# Altium integrated library Renesas Transistor.IntLib: 835 symbols (part 12 of 18)
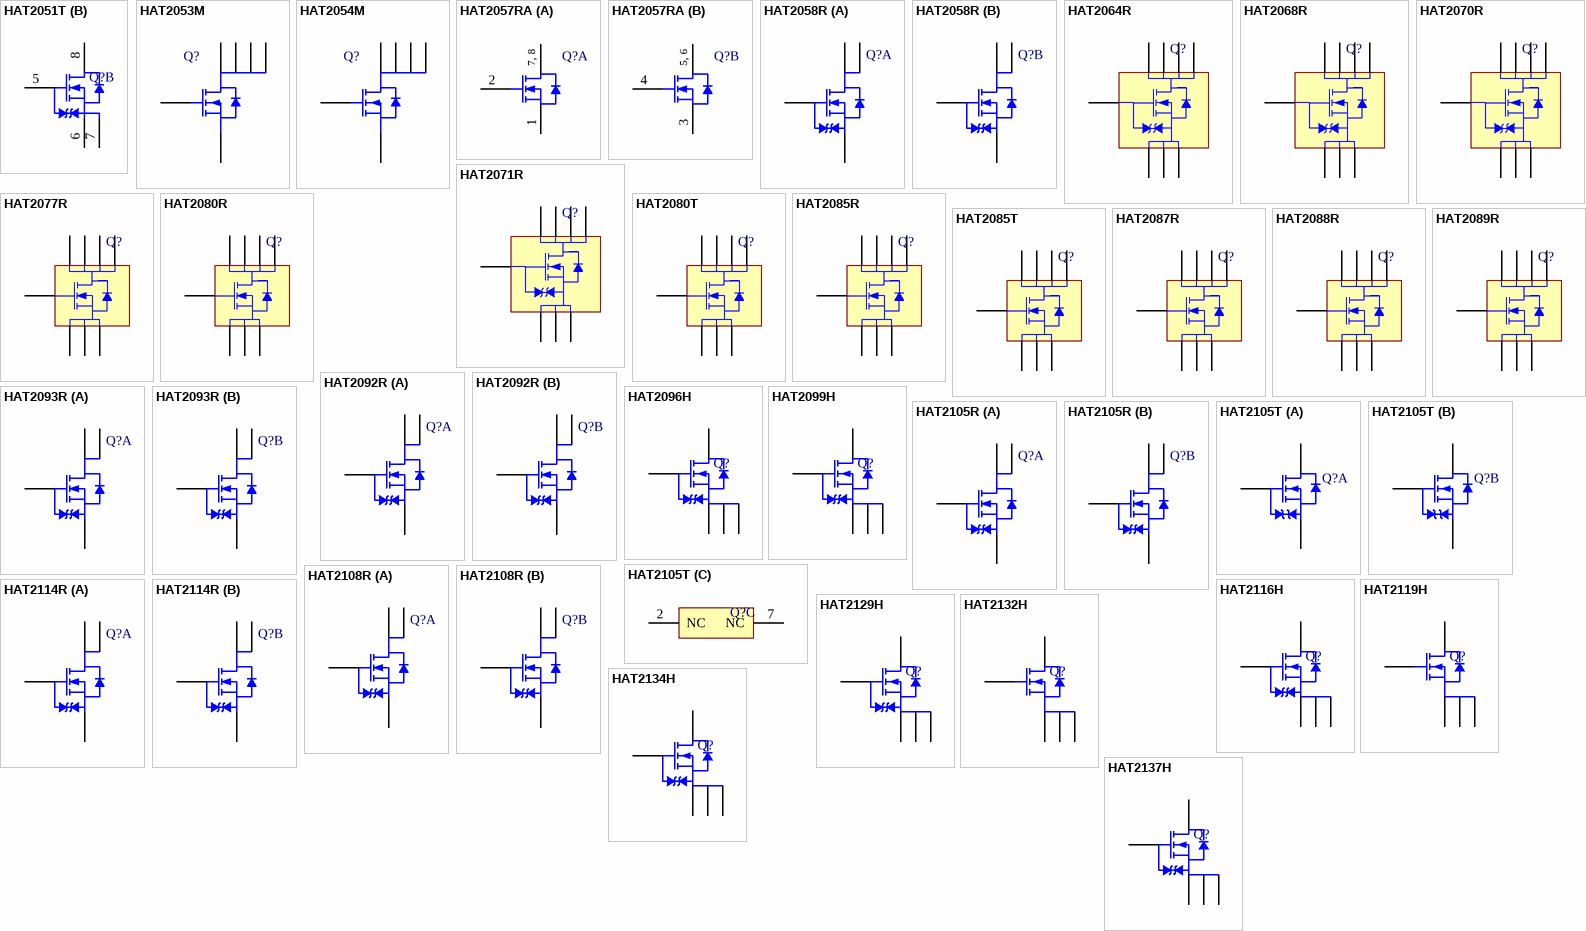
[diagram p33: symbols HAT2051T to HAT2137H]

## HAT2068R
designator Q?
Silicon N-Channel Power MOSFET, Power Switching; Published: 30-Oct-2009; DatasheetVersion: Rev.5.00, Sep-2005; PackageVersion: Sep-2005; PackageReference: PRSP0008DD-A; Publisher: Altium Limited; PackageDescription: 8-Pin Plastic Small Outline Integrated Circuit 1.27 mm Pitch (SOP-8); Supplier 1: Digi-Key; Supplier Part Number 1: HAT2068R-ND; Code_IPC: SOIC127P600-8; ComponentLink1Description: Manufacturer Link; ComponentLink1URL: http://sg.renesas.com/fmwk.jsp?cnt=discrete_category_landing.jsp&fp=/products/discrete/; ComponentLink2Description: Datasheet; ComponentLink2URL: http://documentation.renesas.com/eng/products/transistor/rej03g1176_hat2068rds.pdf; ComponentLink3Description: Packaging Specification; ComponentLink3URL: http://sg.renesas.com/media/products/common_info/package/pdf/transistor/code/prsp0008dd_a.pdf
footprint PRSP0008DD-A_N (SOIC, 8-Leads, Body 4.9x3.95mm, Pitch 1.27mm, IPC Medium Density)
footprint PRSP0008DD-A_L (SOIC, 8-Leads, Body 4.9x3.95mm, Pitch 1.27mm, IPC High Density)
footprint PRSP0008DD-A_M (SOIC, 8-Leads, Body 4.9x3.95mm, Pitch 1.27mm, IPC Low Density)
pins: 1 S, 2 S, 3 S, 4 G, 5 D, 6 D, 7 D, 8 D

## HAT2070R
designator Q?
Silicon N-Channel Power MOSFET, Power Switching; Published: 30-Oct-2009; DatasheetVersion: Rev.4.00, Sep-2005; PackageVersion: Sep-2005; PackageReference: PRSP0008DD-A; Publisher: Altium Limited; PackageDescription: 8-Pin Plastic Small Outline Integrated Circuit 1.27 mm Pitch (SOP-8); Code_IPC: SOIC127P600-8; ComponentLink1Description: Manufacturer Link; ComponentLink1URL: http://sg.renesas.com/fmwk.jsp?cnt=discrete_category_landing.jsp&fp=/products/discrete/; ComponentLink2Description: Datasheet; ComponentLink2URL: http://documentation.renesas.com/eng/products/transistor/rej03g1177_hat2070rds.pdf; ComponentLink3Description: Packaging Specification; ComponentLink3URL: http://sg.renesas.com/media/products/common_info/package/pdf/transistor/code/prsp0008dd_a.pdf
footprint PRSP0008DD-A_N (SOIC, 8-Leads, Body 4.9x3.95mm, Pitch 1.27mm, IPC Medium Density)
footprint PRSP0008DD-A_L (SOIC, 8-Leads, Body 4.9x3.95mm, Pitch 1.27mm, IPC High Density)
footprint PRSP0008DD-A_M (SOIC, 8-Leads, Body 4.9x3.95mm, Pitch 1.27mm, IPC Low Density)
pins: 1 S, 2 S, 3 S, 4 G, 5 D, 6 D, 7 D, 8 D

## HAT2071R
designator Q?
Silicon N-Channel Power MOSFET, Power Switching; Published: 30-Oct-2009; DatasheetVersion: Rev.4.00, Sep-2005; PackageVersion: Sep-2005; PackageReference: PRSP0008DD-A; Publisher: Altium Limited; PackageDescription: 8-Pin Plastic Small Outline Integrated Circuit 1.27 mm Pitch (SOP-8); Code_IPC: SOIC127P600-8; ComponentLink1Description: Manufacturer Link; ComponentLink1URL: http://sg.renesas.com/fmwk.jsp?cnt=discrete_category_landing.jsp&fp=/products/discrete/; ComponentLink2Description: Datasheet; ComponentLink2URL: http://documentation.renesas.com/eng/products/transistor/rej03g1178_hat2071rds.pdf; ComponentLink3Description: Packaging Specification; ComponentLink3URL: http://sg.renesas.com/media/products/common_info/package/pdf/transistor/code/prsp0008dd_a.pdf
footprint PRSP0008DD-A_N (SOIC, 8-Leads, Body 4.9x3.95mm, Pitch 1.27mm, IPC Medium Density)
footprint PRSP0008DD-A_L (SOIC, 8-Leads, Body 4.9x3.95mm, Pitch 1.27mm, IPC High Density)
footprint PRSP0008DD-A_M (SOIC, 8-Leads, Body 4.9x3.95mm, Pitch 1.27mm, IPC Low Density)
pins: 1 S, 2 S, 3 S, 4 G, 5 D, 6 D, 7 D, 8 D

## HAT2077R
designator Q?
Silicon N-Channel Power MOSFET, High Speed Power Switching; Published: 30-Oct-2009; DatasheetVersion: Rev.2.00, Sep-2005; PackageVersion: Sep-2005; PackageReference: PRSP0008DD-A; Publisher: Altium Limited; PackageDescription: 8-Pin Plastic Small Outline Integrated Circuit 1.27 mm Pitch (SOP-8); Code_IPC: SOIC127P600-8; ComponentLink1Description: Manufacturer Link; ComponentLink1URL: http://sg.renesas.com/fmwk.jsp?cnt=discrete_category_landing.jsp&fp=/products/discrete/; ComponentLink2Description: Datasheet; ComponentLink2URL: http://documentation.renesas.com/eng/products/transistor/rej03g1179_hat2077rds.pdf; ComponentLink3Description: Packaging Specification; ComponentLink3URL: http://sg.renesas.com/media/products/common_info/package/pdf/transistor/code/prsp0008dd_a.pdf
footprint PRSP0008DD-A_N (SOIC, 8-Leads, Body 4.9x3.95mm, Pitch 1.27mm, IPC Medium Density)
footprint PRSP0008DD-A_L (SOIC, 8-Leads, Body 4.9x3.95mm, Pitch 1.27mm, IPC High Density)
footprint PRSP0008DD-A_M (SOIC, 8-Leads, Body 4.9x3.95mm, Pitch 1.27mm, IPC Low Density)
pins: 1 S, 2 S, 3 S, 4 G, 5 D, 6 D, 7 D, 8 D

## HAT2080R
designator Q?
Silicon N-Channel Power MOSFET, High Speed Power Switching; Published: 30-Oct-2009; DatasheetVersion: Rev.2.00, Sep-2005; PackageVersion: Sep-2005; PackageReference: PRSP0008DD-A; Publisher: Altium Limited; PackageDescription: 8-Pin Plastic Small Outline Integrated Circuit 1.27 mm Pitch (SOP-8); Code_IPC: SOIC127P600-8; ComponentLink1Description: Manufacturer Link; ComponentLink1URL: http://sg.renesas.com/fmwk.jsp?cnt=discrete_category_landing.jsp&fp=/products/discrete/; ComponentLink2Description: Datasheet; ComponentLink2URL: http://documentation.renesas.com/eng/products/transistor/rej03g1180_hat2080rds.pdf; ComponentLink3Description: Packaging Specification; ComponentLink3URL: http://sg.renesas.com/media/products/common_info/package/pdf/transistor/code/prsp0008dd_a.pdf
footprint PRSP0008DD-A_N (SOIC, 8-Leads, Body 4.9x3.95mm, Pitch 1.27mm, IPC Medium Density)
footprint PRSP0008DD-A_L (SOIC, 8-Leads, Body 4.9x3.95mm, Pitch 1.27mm, IPC High Density)
footprint PRSP0008DD-A_M (SOIC, 8-Leads, Body 4.9x3.95mm, Pitch 1.27mm, IPC Low Density)
pins: 1 S, 2 S, 3 S, 4 G, 5 D, 6 D, 7 D, 8 D

## HAT2080T
designator Q?
Silicon N-Channel MOSFET, High Speed Power Switching; Published: 30-Oct-2009; DatasheetVersion: Rev.5.00, Sep-2005; PackageVersion: Sep-2007; PackageReference: PTSP0008JB-A; Publisher: Altium Limited; PackageDescription: 8-Pin Plastic Thin Small Outline Package 0.65 mm Pitch (TSSOP-8); Code_JEITA: P-TSSOP8-4.4×3-0.65; ComponentLink1Description: Manufacturer Link; ComponentLink1URL: http://sg.renesas.com/fmwk.jsp?cnt=discrete_category_landing.jsp&fp=/products/discrete/; ComponentLink2Description: Datasheet; ComponentLink2URL: http://documentation.renesas.com/eng/products/transistor/rej03g0162_hat2080tds.pdf; ComponentLink3Description: Packaging Specification; ComponentLink3URL: http://sg.renesas.com/media/products/common_info/package/pdf/transistor/code/ptsp0008jb_a.pdf
footprint PTSP0008JB-A_N (TSOP, 8-Leads, Body 3x4.4mm, Pitch 0.65mm, IPC Medium Density)
footprint PTSP0008JB-A_L (TSOP, 8-Leads, Body 3x4.4mm, Pitch 0.65mm, IPC High Density)
footprint PTSP0008JB-A_M (TSOP, 8-Leads, Body 3x4.4mm, Pitch 0.65mm, IPC Low Density)
pins: 1 S, 2 S, 3 S, 4 G, 5 D, 6 D, 7 D, 8 D

## HAT2085R
designator Q?
Silicon N-Channel Power MOSFET, High Speed Power Switching; Published: 30-Oct-2009; DatasheetVersion: Rev.2.00, Sep-2005; PackageVersion: Sep-2005; PackageReference: PRSP0008DD-A; Publisher: Altium Limited; PackageDescription: 8-Pin Plastic Small Outline Integrated Circuit 1.27 mm Pitch (SOP-8); Code_IPC: SOIC127P600-8; ComponentLink1Description: Manufacturer Link; ComponentLink1URL: http://sg.renesas.com/fmwk.jsp?cnt=discrete_category_landing.jsp&fp=/products/discrete/; ComponentLink2Description: Datasheet; ComponentLink2URL: http://documentation.renesas.com/eng/products/transistor/rej03g1181_hat2085rds.pdf; ComponentLink3Description: Packaging Specification; ComponentLink3URL: http://sg.renesas.com/media/products/common_info/package/pdf/transistor/code/prsp0008dd_a.pdf
footprint PRSP0008DD-A_N (SOIC, 8-Leads, Body 4.9x3.95mm, Pitch 1.27mm, IPC Medium Density)
footprint PRSP0008DD-A_L (SOIC, 8-Leads, Body 4.9x3.95mm, Pitch 1.27mm, IPC High Density)
footprint PRSP0008DD-A_M (SOIC, 8-Leads, Body 4.9x3.95mm, Pitch 1.27mm, IPC Low Density)
pins: 1 S, 2 S, 3 S, 4 G, 5 D, 6 D, 7 D, 8 D

## HAT2085T
designator Q?
Silicon N-Channel MOSFET, High Speed Power Switching; Published: 30-Oct-2009; DatasheetVersion: Rev.5.00, Nov-2007; PackageVersion: Sep-2007; PackageReference: PTSP0008JB-A; Publisher: Altium Limited; PackageDescription: 8-Pin Plastic Thin Small Outline Package 0.65 mm Pitch (TSSOP-8); Code_JEITA: P-TSSOP8-4.4×3-0.65; ComponentLink1Description: Manufacturer Link; ComponentLink1URL: http://sg.renesas.com/fmwk.jsp?cnt=discrete_category_landing.jsp&fp=/products/discrete/; ComponentLink2Description: Datasheet; ComponentLink2URL: http://documentation.renesas.com/eng/products/transistor/rej03g0163_hat2085tds.pdf; ComponentLink3Description: Packaging Specification; ComponentLink3URL: http://sg.renesas.com/media/products/common_info/package/pdf/transistor/code/ptsp0008jb_a.pdf
footprint PTSP0008JB-A_N (TSOP, 8-Leads, Body 3x4.4mm, Pitch 0.65mm, IPC Medium Density)
footprint PTSP0008JB-A_L (TSOP, 8-Leads, Body 3x4.4mm, Pitch 0.65mm, IPC High Density)
footprint PTSP0008JB-A_M (TSOP, 8-Leads, Body 3x4.4mm, Pitch 0.65mm, IPC Low Density)
pins: 1 S, 2 S, 3 S, 4 G, 5 D, 6 D, 7 D, 8 D

## HAT2087R
designator Q?
Silicon N-Channel Power MOSFET, High Speed Power Switching; Published: 30-Oct-2009; DatasheetVersion: Rev.3.00, Feb-2009; PackageVersion: Sep-2005; PackageReference: PRSP0008DD-A; Publisher: Altium Limited; PackageDescription: 8-Pin Plastic Small Outline Integrated Circuit 1.27 mm Pitch (SOP-8); Code_IPC: SOIC127P600-8; ComponentLink1Description: Manufacturer Link; ComponentLink1URL: http://sg.renesas.com/fmwk.jsp?cnt=discrete_category_landing.jsp&fp=/products/discrete/; ComponentLink2Description: Datasheet; ComponentLink2URL: http://documentation.renesas.com/eng/products/transistor/rej03g1182_hat2087rds.pdf; ComponentLink3Description: Packaging Specification; ComponentLink3URL: http://sg.renesas.com/media/products/common_info/package/pdf/transistor/code/prsp0008dd_a.pdf
footprint PRSP0008DD-A_N (SOIC, 8-Leads, Body 4.9x3.95mm, Pitch 1.27mm, IPC Medium Density)
footprint PRSP0008DD-A_L (SOIC, 8-Leads, Body 4.9x3.95mm, Pitch 1.27mm, IPC High Density)
footprint PRSP0008DD-A_M (SOIC, 8-Leads, Body 4.9x3.95mm, Pitch 1.27mm, IPC Low Density)
pins: 1 S, 2 S, 3 S, 4 G, 5 D, 6 D, 7 D, 8 D

## HAT2088R
designator Q?
Silicon N-Channel Power MOSFET, High Speed Power Switching; Published: 30-Oct-2009; DatasheetVersion: Rev.2.00, Sep-2005; PackageVersion: Sep-2005; PackageReference: PRSP0008DD-A; Publisher: Altium Limited; PackageDescription: 8-Pin Plastic Small Outline Integrated Circuit 1.27 mm Pitch (SOP-8); Code_IPC: SOIC127P600-8; ComponentLink1Description: Manufacturer Link; ComponentLink1URL: http://sg.renesas.com/fmwk.jsp?cnt=discrete_category_landing.jsp&fp=/products/discrete/; ComponentLink2Description: Datasheet; ComponentLink2URL: http://documentation.renesas.com/eng/products/transistor/rej03g1183_hat2088rds.pdf; ComponentLink3Description: Packaging Specification; ComponentLink3URL: http://sg.renesas.com/media/products/common_info/package/pdf/transistor/code/prsp0008dd_a.pdf
footprint PRSP0008DD-A_N (SOIC, 8-Leads, Body 4.9x3.95mm, Pitch 1.27mm, IPC Medium Density)
footprint PRSP0008DD-A_L (SOIC, 8-Leads, Body 4.9x3.95mm, Pitch 1.27mm, IPC High Density)
footprint PRSP0008DD-A_M (SOIC, 8-Leads, Body 4.9x3.95mm, Pitch 1.27mm, IPC Low Density)
pins: 1 S, 2 S, 3 S, 4 G, 5 D, 6 D, 7 D, 8 D

## HAT2089R
designator Q?
Silicon N-Channel Power MOSFET, High Speed Power Switching; Published: 30-Oct-2009; DatasheetVersion: Rev.2.00, Sep-2005; PackageVersion: Sep-2005; PackageReference: PRSP0008DD-A; Publisher: Altium Limited; PackageDescription: 8-Pin Plastic Small Outline Integrated Circuit 1.27 mm Pitch (SOP-8); Code_IPC: SOIC127P600-8; ComponentLink1Description: Manufacturer Link; ComponentLink1URL: http://sg.renesas.com/fmwk.jsp?cnt=discrete_category_landing.jsp&fp=/products/discrete/; ComponentLink2Description: Datasheet; ComponentLink2URL: http://documentation.renesas.com/eng/products/transistor/rej03g1184_hat2089rds.pdf; ComponentLink3Description: Packaging Specification; ComponentLink3URL: http://sg.renesas.com/media/products/common_info/package/pdf/transistor/code/prsp0008dd_a.pdf
footprint PRSP0008DD-A_N (SOIC, 8-Leads, Body 4.9x3.95mm, Pitch 1.27mm, IPC Medium Density)
footprint PRSP0008DD-A_L (SOIC, 8-Leads, Body 4.9x3.95mm, Pitch 1.27mm, IPC High Density)
footprint PRSP0008DD-A_M (SOIC, 8-Leads, Body 4.9x3.95mm, Pitch 1.27mm, IPC Low Density)
pins: 1 S, 2 S, 3 S, 4 G, 5 D, 6 D, 7 D, 8 D

## HAT2092R
designator Q?
Silicon N-Channel MOSFET, High Speed Power Switching; Published: 30-Oct-2009; DatasheetVersion: Rev.3.00, Jan-2005; PackageVersion: Sep-2005; PackageReference: PRSP0008DD-A; Publisher: Altium Limited; PackageDescription: 8-Pin Plastic Small Outline Integrated Circuit 1.27 mm Pitch (SOP-8); Code_IPC: SOIC127P600-8; ComponentLink1Description: Manufacturer Link; ComponentLink1URL: http://sg.renesas.com/fmwk.jsp?cnt=discrete_category_landing.jsp&fp=/products/discrete/; ComponentLink2Description: Datasheet; ComponentLink2URL: http://documentation.renesas.com/eng/products/transistor/rej03g0511_hat2092r.pdf; ComponentLink3Description: Packaging Specification; ComponentLink3URL: http://sg.renesas.com/media/products/common_info/package/pdf/transistor/code/prsp0008dd_a.pdf
footprint PRSP0008DD-A_N (SOIC, 8-Leads, Body 4.9x3.95mm, Pitch 1.27mm, IPC Medium Density)
footprint PRSP0008DD-A_L (SOIC, 8-Leads, Body 4.9x3.95mm, Pitch 1.27mm, IPC High Density)
footprint PRSP0008DD-A_M (SOIC, 8-Leads, Body 4.9x3.95mm, Pitch 1.27mm, IPC Low Density)
part A pins: 1 S, 2 G, 7 D, 8 D
part B pins: 3 S, 4 G, 5 D, 6 D

## HAT2093R
designator Q?
Silicon N-Channel Power MOSFET, Power Switching; Published: 30-Oct-2009; DatasheetVersion: Rev.3.00, Sep-2005; PackageVersion: Sep-2005; PackageReference: PRSP0008DD-A; Publisher: Altium Limited; PackageDescription: 8-Pin Plastic Small Outline Integrated Circuit 1.27 mm Pitch (SOP-8); Code_IPC: SOIC127P600-8; ComponentLink1Description: Manufacturer Link; ComponentLink1URL: http://sg.renesas.com/fmwk.jsp?cnt=discrete_category_landing.jsp&fp=/products/discrete/; ComponentLink2Description: Datasheet; ComponentLink2URL: http://documentation.renesas.com/eng/products/transistor/rej03g1185_hat2093rds.pdf; ComponentLink3Description: Packaging Specification; ComponentLink3URL: http://sg.renesas.com/media/products/common_info/package/pdf/transistor/code/prsp0008dd_a.pdf
footprint PRSP0008DD-A_N (SOIC, 8-Leads, Body 4.9x3.95mm, Pitch 1.27mm, IPC Medium Density)
footprint PRSP0008DD-A_L (SOIC, 8-Leads, Body 4.9x3.95mm, Pitch 1.27mm, IPC High Density)
footprint PRSP0008DD-A_M (SOIC, 8-Leads, Body 4.9x3.95mm, Pitch 1.27mm, IPC Low Density)
part A pins: 1 S, 2 G, 7 D, 8 D
part B pins: 3 S, 4 G, 5 D, 6 D

## HAT2096H
designator Q?
Silicon N-Channel Power MOSFET, High Speed Power Switching; Published: 30-Oct-2009; DatasheetVersion: Rev.4.00, Sep-2005; PackageVersion: Sep-2005; PackageReference: PTZZ0005DA-A; Publisher: Altium Limited; PackageDescription: 5-Pin Plastic Transistor Outline Package 4 x 4.9 mm Body (LFPAK); Code_JEITA: SC-100; ComponentLink1Description: Manufacturer Link; ComponentLink1URL: http://sg.renesas.com/fmwk.jsp?cnt=discrete_category_landing.jsp&fp=/products/discrete/; ComponentLink2Description: Datasheet; ComponentLink2URL: http://documentation.renesas.com/eng/products/transistor/rej03g1186_hat2096hds.pdf; ComponentLink3Description: Packaging Specification; ComponentLink3URL: http://sg.renesas.com/media/products/common_info/package/pdf/transistor/code/ptzz0005da_a.pdf
footprint PTZZ0005DA-A_N (TO, 5-Leads, Body 4x4.9mm, Pitch 1.27mm, Lead Span 6mm, IPC Medium Density)
footprint PTZZ0005DA-A_L (TO, 5-Leads, Body 4x4.9mm, Pitch 1.27mm, Lead Span 6mm, IPC High Density)
footprint PTZZ0005DA-A_M (TO, 5-Leads, Body 4x4.9mm, Pitch 1.27mm, Lead Span 6mm, IPC Low Density)
pins: 1 S, 2 S, 3 S, 4 G, 5 D

## HAT2099H
designator Q?
Silicon N-Channel Power MOSFET, Power Switching; Published: 30-Oct-2009; DatasheetVersion: Rev.5.00, Sep-2005; PackageVersion: Sep-2005; PackageReference: PTZZ0005DA-A; Publisher: Altium Limited; PackageDescription: 5-Pin Plastic Transistor Outline Package 4 x 4.9 mm Body (LFPAK); Code_JEITA: SC-100; ComponentLink1Description: Manufacturer Link; ComponentLink1URL: http://sg.renesas.com/fmwk.jsp?cnt=discrete_category_landing.jsp&fp=/products/discrete/; ComponentLink2Description: Datasheet; ComponentLink2URL: http://documentation.renesas.com/eng/products/transistor/rej03g1187_hat2099hds.pdf; ComponentLink3Description: Packaging Specification; ComponentLink3URL: http://sg.renesas.com/media/products/common_info/package/pdf/transistor/code/ptzz0005da_a.pdf
footprint PTZZ0005DA-A_N (TO, 5-Leads, Body 4x4.9mm, Pitch 1.27mm, Lead Span 6mm, IPC Medium Density)
footprint PTZZ0005DA-A_L (TO, 5-Leads, Body 4x4.9mm, Pitch 1.27mm, Lead Span 6mm, IPC High Density)
footprint PTZZ0005DA-A_M (TO, 5-Leads, Body 4x4.9mm, Pitch 1.27mm, Lead Span 6mm, IPC Low Density)
pins: 1 S, 2 S, 3 S, 4 G, 5 D

## HAT2105R
designator Q?
Silicon N-Channel Power MOSFET, High Speed Power Switching; Published: 30-Oct-2009; DatasheetVersion: Rev.1.00, Apr-2006; PackageVersion: Sep-2005; PackageReference: PRSP0008DD-A; Publisher: Altium Limited; PackageDescription: 8-Pin Plastic Small Outline Integrated Circuit 1.27 mm Pitch (SOP-8); Code_IPC: SOIC127P600-8; ComponentLink1Description: Manufacturer Link; ComponentLink1URL: http://sg.renesas.com/fmwk.jsp?cnt=discrete_category_landing.jsp&fp=/products/discrete/; ComponentLink2Description: Datasheet; ComponentLink2URL: http://documentation.renesas.com/eng/products/transistor/rej03g1369_hat2105rds.pdf; ComponentLink3Description: Packaging Specification; ComponentLink3URL: http://sg.renesas.com/media/products/common_info/package/pdf/transistor/code/prsp0008dd_a.pdf
footprint PRSP0008DD-A_N (SOIC, 8-Leads, Body 4.9x3.95mm, Pitch 1.27mm, IPC Medium Density)
footprint PRSP0008DD-A_L (SOIC, 8-Leads, Body 4.9x3.95mm, Pitch 1.27mm, IPC High Density)
footprint PRSP0008DD-A_M (SOIC, 8-Leads, Body 4.9x3.95mm, Pitch 1.27mm, IPC Low Density)
part A pins: 1 S, 2 G, 7 D, 8 D
part B pins: 3 S, 4 G, 5 D, 6 D

## HAT2105T
designator Q?
Silicon N-Channel MOSFET, High Speed Power Switching; Published: 30-Oct-2009; DatasheetVersion: Rev.2.00, Aug-2007; PackageVersion: Sep-2007; PackageReference: PTSP0008JB-B; Publisher: Altium Limited; PackageDescription: 8-Pin Plastic Thin Small Outline Package 0.65 mm Pitch (TSSOP-8); Code_JEITA: P-TSSOP8-4.4×3-0.65; ComponentLink1Description: Manufacturer Link; ComponentLink1URL: http://sg.renesas.com/fmwk.jsp?cnt=discrete_category_landing.jsp&fp=/products/discrete/; ComponentLink2Description: Datasheet; ComponentLink2URL: http://documentation.renesas.com/eng/products/transistor/rej03g0384_hat2105tds.pdf; ComponentLink3Description: Packaging Specification; ComponentLink3URL: http://sg.renesas.com/media/products/common_info/package/pdf/transistor/code/ptsp0008jb_b.pdf
footprint PTSP0008JB-B_N (TSOP, 8-Leads, Body 3x4.4mm, Pitch 0.65mm, IPC Medium Density)
footprint PTSP0008JB-B_L (TSOP, 8-Leads, Body 3x4.4mm, Pitch 0.65mm, IPC High Density)
footprint PTSP0008JB-B_M (TSOP, 8-Leads, Body 3x4.4mm, Pitch 0.65mm, IPC Low Density)
part A pins: 1 D, 3 S, 4 G
part B pins: 5 G, 6 S, 8 D
part C pins: 2 NC, 7 NC

## HAT2108R
designator Q?
Silicon N-Channel Power MOSFET, High Speed Power Switching; Published: 30-Oct-2009; DatasheetVersion: Rev.5.00, Sep-2005; PackageVersion: Sep-2005; PackageReference: PRSP0008DD-A; Publisher: Altium Limited; PackageDescription: 8-Pin Plastic Small Outline Integrated Circuit 1.27 mm Pitch (SOP-8); Code_IPC: SOIC127P600-8; ComponentLink1Description: Manufacturer Link; ComponentLink1URL: http://sg.renesas.com/fmwk.jsp?cnt=discrete_category_landing.jsp&fp=/products/discrete/; ComponentLink2Description: Datasheet; ComponentLink2URL: http://documentation.renesas.com/eng/products/transistor/rej03g1188_hat2108rds.pdf; ComponentLink3Description: Packaging Specification; ComponentLink3URL: http://sg.renesas.com/media/products/common_info/package/pdf/transistor/code/prsp0008dd_a.pdf
footprint PRSP0008DD-A_N (SOIC, 8-Leads, Body 4.9x3.95mm, Pitch 1.27mm, IPC Medium Density)
footprint PRSP0008DD-A_L (SOIC, 8-Leads, Body 4.9x3.95mm, Pitch 1.27mm, IPC High Density)
footprint PRSP0008DD-A_M (SOIC, 8-Leads, Body 4.9x3.95mm, Pitch 1.27mm, IPC Low Density)
part A pins: 1 S, 2 G, 7 D, 8 D
part B pins: 3 S, 4 G, 5 D, 6 D

## HAT2114R
designator Q?
Silicon N-Channel Power MOSFET, High Speed Power Switching; Published: 30-Oct-2009; DatasheetVersion: Rev.1.00, Oct-2003; PackageVersion: Sep-2005; PackageReference: PRSP0008DD-A; Publisher: Altium Limited; PackageDescription: 8-Pin Plastic Small Outline Integrated Circuit 1.27 mm Pitch (SOP-8); Code_IPC: SOIC127P600-8; ComponentLink1Description: Manufacturer Link; ComponentLink1URL: http://sg.renesas.com/fmwk.jsp?cnt=discrete_category_landing.jsp&fp=/products/discrete/; ComponentLink2Description: Datasheet; ComponentLink2URL: http://documentation.renesas.com/eng/products/transistor/rej03g0120_hat2114r.pdf; ComponentLink3Description: Packaging Specification; ComponentLink3URL: http://sg.renesas.com/media/products/common_info/package/pdf/transistor/code/prsp0008dd_a.pdf
footprint PRSP0008DD-A_N (SOIC, 8-Leads, Body 4.9x3.95mm, Pitch 1.27mm, IPC Medium Density)
footprint PRSP0008DD-A_L (SOIC, 8-Leads, Body 4.9x3.95mm, Pitch 1.27mm, IPC High Density)
footprint PRSP0008DD-A_M (SOIC, 8-Leads, Body 4.9x3.95mm, Pitch 1.27mm, IPC Low Density)
part A pins: 1 S, 2 G, 7 D, 8 D
part B pins: 3 S, 4 G, 5 D, 6 D

## HAT2116H
designator Q?
Silicon N-Channel Power MOSFET, Power Switching; Published: 30-Oct-2009; DatasheetVersion: Rev.4.00, Sep-2005; PackageVersion: Sep-2005; PackageReference: PTZZ0005DA-A; Publisher: Altium Limited; PackageDescription: 5-Pin Plastic Transistor Outline Package 4 x 4.9 mm Body (LFPAK); Code_JEITA: SC-100; ComponentLink1Description: Manufacturer Link; ComponentLink1URL: http://sg.renesas.com/fmwk.jsp?cnt=discrete_category_landing.jsp&fp=/products/discrete/; ComponentLink2Description: Datasheet; ComponentLink2URL: http://documentation.renesas.com/eng/products/transistor/rej03g1189_hat2116hds.pdf; ComponentLink3Description: Packaging Specification; ComponentLink3URL: http://sg.renesas.com/media/products/common_info/package/pdf/transistor/code/ptzz0005da_a.pdf
footprint PTZZ0005DA-A_N (TO, 5-Leads, Body 4x4.9mm, Pitch 1.27mm, Lead Span 6mm, IPC Medium Density)
footprint PTZZ0005DA-A_L (TO, 5-Leads, Body 4x4.9mm, Pitch 1.27mm, Lead Span 6mm, IPC High Density)
footprint PTZZ0005DA-A_M (TO, 5-Leads, Body 4x4.9mm, Pitch 1.27mm, Lead Span 6mm, IPC Low Density)
pins: 1 S, 2 S, 3 S, 4 G, 5 D

## HAT2119H
designator Q?
Silicon N-Channel MOSFET, High Speed Power Switching; Published: 30-Oct-2009; DatasheetVersion: Rev.3.00, Dec-2006; PackageVersion: Sep-2005; PackageReference: PTZZ0005DA-A; Publisher: Altium Limited; PackageDescription: 5-Pin Plastic Transistor Outline Package 4 x 4.9 mm Body (LFPAK); Code_JEITA: SC-100; ComponentLink1Description: Manufacturer Link; ComponentLink1URL: http://sg.renesas.com/fmwk.jsp?cnt=discrete_category_landing.jsp&fp=/products/discrete/; ComponentLink2Description: Datasheet; ComponentLink2URL: http://documentation.renesas.com/eng/products/transistor/rej03g0176_hat2119hds.pdf; ComponentLink3Description: Packaging Specification; ComponentLink3URL: http://sg.renesas.com/media/products/common_info/package/pdf/transistor/code/ptzz0005da_a.pdf
footprint PTZZ0005DA-A_N (TO, 5-Leads, Body 4x4.9mm, Pitch 1.27mm, Lead Span 6mm, IPC Medium Density)
footprint PTZZ0005DA-A_L (TO, 5-Leads, Body 4x4.9mm, Pitch 1.27mm, Lead Span 6mm, IPC High Density)
footprint PTZZ0005DA-A_M (TO, 5-Leads, Body 4x4.9mm, Pitch 1.27mm, Lead Span 6mm, IPC Low Density)
pins: 1 S, 2 S, 3 S, 4 G, 5 D

## HAT2129H
designator Q?
Silicon N-Channel Power MOSFET, Power Switching; Published: 30-Oct-2009; DatasheetVersion: Rev.5.00, Sep-2005; PackageVersion: Sep-2005; PackageReference: PTZZ0005DA-A; Publisher: Altium Limited; PackageDescription: 5-Pin Plastic Transistor Outline Package 4 x 4.9 mm Body (LFPAK); Supplier 1: Digi-Key; Supplier Part Number 1: HAT2129H-ND; Code_JEITA: SC-100; ComponentLink1Description: Manufacturer Link; ComponentLink1URL: http://sg.renesas.com/fmwk.jsp?cnt=discrete_category_landing.jsp&fp=/products/discrete/; ComponentLink2Description: Datasheet; ComponentLink2URL: http://documentation.renesas.com/eng/products/transistor/rej03g0049_hat2129h.pdf; ComponentLink3Description: Packaging Specification; ComponentLink3URL: http://sg.renesas.com/media/products/common_info/package/pdf/transistor/code/ptzz0005da_a.pdf
footprint PTZZ0005DA-A_N (TO, 5-Leads, Body 4x4.9mm, Pitch 1.27mm, Lead Span 6mm, IPC Medium Density)
footprint PTZZ0005DA-A_L (TO, 5-Leads, Body 4x4.9mm, Pitch 1.27mm, Lead Span 6mm, IPC High Density)
footprint PTZZ0005DA-A_M (TO, 5-Leads, Body 4x4.9mm, Pitch 1.27mm, Lead Span 6mm, IPC Low Density)
pins: 1 S, 2 S, 3 S, 4 G, 5 D

## HAT2132H
designator Q?
Silicon N-Channel MOSFET, High Speed Power Switching; Published: 30-Oct-2009; DatasheetVersion: Rev.3.00, Nov-2006; PackageVersion: Sep-2005; PackageReference: PTZZ0005DA-A; Publisher: Altium Limited; PackageDescription: 5-Pin Plastic Transistor Outline Package 4 x 4.9 mm Body (LFPAK); Code_JEITA: SC-100; ComponentLink1Description: Manufacturer Link; ComponentLink1URL: http://sg.renesas.com/fmwk.jsp?cnt=discrete_category_landing.jsp&fp=/products/discrete/; ComponentLink2Description: Datasheet; ComponentLink2URL: http://documentation.renesas.com/eng/products/transistor/rej03g0177_hat2132hds.pdf; ComponentLink3Description: Packaging Specification; ComponentLink3URL: http://sg.renesas.com/media/products/common_info/package/pdf/transistor/code/ptzz0005da_a.pdf
footprint PTZZ0005DA-A_N (TO, 5-Leads, Body 4x4.9mm, Pitch 1.27mm, Lead Span 6mm, IPC Medium Density)
footprint PTZZ0005DA-A_L (TO, 5-Leads, Body 4x4.9mm, Pitch 1.27mm, Lead Span 6mm, IPC High Density)
footprint PTZZ0005DA-A_M (TO, 5-Leads, Body 4x4.9mm, Pitch 1.27mm, Lead Span 6mm, IPC Low Density)
pins: 1 S, 2 S, 3 S, 4 G, 5 D

## HAT2134H
designator Q?
Silicon N-Channel Power MOSFET, Power Switching; Published: 30-Oct-2009; DatasheetVersion: Rev.3.00, Sep-2005; PackageVersion: Sep-2005; PackageReference: PTZZ0005DA-A; Publisher: Altium Limited; PackageDescription: 5-Pin Plastic Transistor Outline Package 4 x 4.9 mm Body (LFPAK); Supplier 1: Digi-Key; Supplier Part Number 1: HAT2134H-ND; Code_JEITA: SC-100; ComponentLink1Description: Manufacturer Link; ComponentLink1URL: http://sg.renesas.com/fmwk.jsp?cnt=discrete_category_landing.jsp&fp=/products/discrete/; ComponentLink2Description: Datasheet; ComponentLink2URL: http://documentation.renesas.com/eng/products/transistor/rej03g1190_hat2134hds.pdf; ComponentLink3Description: Packaging Specification; ComponentLink3URL: http://sg.renesas.com/media/products/common_info/package/pdf/transistor/code/ptzz0005da_a.pdf
footprint PTZZ0005DA-A_N (TO, 5-Leads, Body 4x4.9mm, Pitch 1.27mm, Lead Span 6mm, IPC Medium Density)
footprint PTZZ0005DA-A_L (TO, 5-Leads, Body 4x4.9mm, Pitch 1.27mm, Lead Span 6mm, IPC High Density)
footprint PTZZ0005DA-A_M (TO, 5-Leads, Body 4x4.9mm, Pitch 1.27mm, Lead Span 6mm, IPC Low Density)
pins: 1 S, 2 S, 3 S, 4 G, 5 D

## HAT2137H
designator Q?
Silicon N-Channel Power MOSFET, Power Switching; Published: 30-Oct-2009; DatasheetVersion: Rev.4.00, Sep-2005; PackageVersion: Sep-2005; PackageReference: PTZZ0005DA-A; Publisher: Altium Limited; PackageDescription: 5-Pin Plastic Transistor Outline Package 4 x 4.9 mm Body (LFPAK); Supplier 1: Digi-Key; Supplier Part Number 1: HAT2137H-ND; Code_JEITA: SC-100; ComponentLink1Description: Manufacturer Link; ComponentLink1URL: http://sg.renesas.com/fmwk.jsp?cnt=discrete_category_landing.jsp&fp=/products/discrete/; ComponentLink2Description: Datasheet; ComponentLink2URL: http://documentation.renesas.com/eng/products/transistor/rej03g1191_hat2137hds.pdf; ComponentLink3Description: Packaging Specification; ComponentLink3URL: http://sg.renesas.com/media/products/common_info/package/pdf/transistor/code/ptzz0005da_a.pdf
footprint PTZZ0005DA-A_N (TO, 5-Leads, Body 4x4.9mm, Pitch 1.27mm, Lead Span 6mm, IPC Medium Density)
footprint PTZZ0005DA-A_L (TO, 5-Leads, Body 4x4.9mm, Pitch 1.27mm, Lead Span 6mm, IPC High Density)
footprint PTZZ0005DA-A_M (TO, 5-Leads, Body 4x4.9mm, Pitch 1.27mm, Lead Span 6mm, IPC Low Density)
pins: 1 S, 2 S, 3 S, 4 G, 5 D

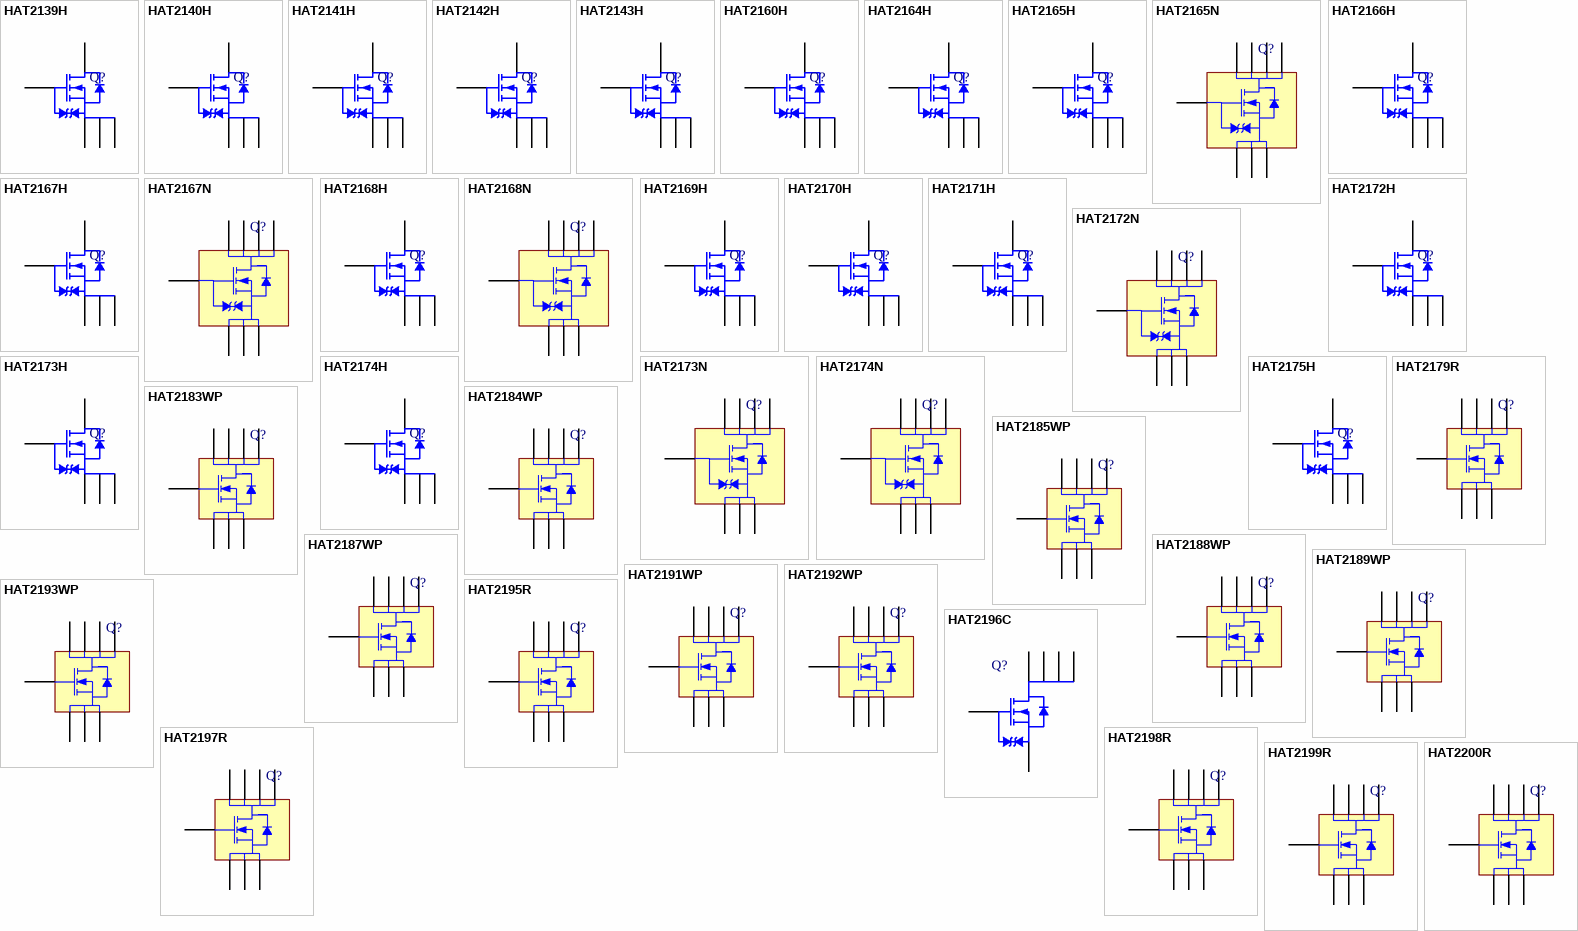
[diagram p15: symbols HAT2139H to HAT2200R]

## HAT2139H
designator Q?
Silicon N-Channel Power MOSFET, Power Switching; Published: 30-Oct-2009; DatasheetVersion: Rev.5.00, Sep-2005; PackageVersion: Sep-2005; PackageReference: PTZZ0005DA-A; Publisher: Altium Limited; PackageDescription: 5-Pin Plastic Transistor Outline Package 4 x 4.9 mm Body (LFPAK); Code_JEITA: SC-100; ComponentLink1Description: Manufacturer Link; ComponentLink1URL: http://sg.renesas.com/fmwk.jsp?cnt=discrete_category_landing.jsp&fp=/products/discrete/; ComponentLink2Description: Datasheet; ComponentLink2URL: http://documentation.renesas.com/eng/products/transistor/rej03g0055_hat2139h.pdf; ComponentLink3Description: Packaging Specification; ComponentLink3URL: http://sg.renesas.com/media/products/common_info/package/pdf/transistor/code/ptzz0005da_a.pdf
footprint PTZZ0005DA-A_N (TO, 5-Leads, Body 4x4.9mm, Pitch 1.27mm, Lead Span 6mm, IPC Medium Density)
footprint PTZZ0005DA-A_L (TO, 5-Leads, Body 4x4.9mm, Pitch 1.27mm, Lead Span 6mm, IPC High Density)
footprint PTZZ0005DA-A_M (TO, 5-Leads, Body 4x4.9mm, Pitch 1.27mm, Lead Span 6mm, IPC Low Density)
pins: 1 S, 2 S, 3 S, 4 G, 5 D

## HAT2140H
designator Q?
Silicon N-Channel Power MOSFET, Power Switching; Published: 30-Oct-2009; DatasheetVersion: Rev.4.00, Sep-2005; PackageVersion: Sep-2005; PackageReference: PTZZ0005DA-A; Publisher: Altium Limited; PackageDescription: 5-Pin Plastic Transistor Outline Package 4 x 4.9 mm Body (LFPAK); Supplier 1: Digi-Key; Supplier Part Number 1: HAT2140H-ND; Code_JEITA: SC-100; ComponentLink1Description: Manufacturer Link; ComponentLink1URL: http://sg.renesas.com/fmwk.jsp?cnt=discrete_category_landing.jsp&fp=/products/discrete/; ComponentLink2Description: Datasheet; ComponentLink2URL: http://documentation.renesas.com/eng/products/transistor/rej03g1192_hat2140hds.pdf; ComponentLink3Description: Packaging Specification; ComponentLink3URL: http://sg.renesas.com/media/products/common_info/package/pdf/transistor/code/ptzz0005da_a.pdf
footprint PTZZ0005DA-A_N (TO, 5-Leads, Body 4x4.9mm, Pitch 1.27mm, Lead Span 6mm, IPC Medium Density)
footprint PTZZ0005DA-A_L (TO, 5-Leads, Body 4x4.9mm, Pitch 1.27mm, Lead Span 6mm, IPC High Density)
footprint PTZZ0005DA-A_M (TO, 5-Leads, Body 4x4.9mm, Pitch 1.27mm, Lead Span 6mm, IPC Low Density)
pins: 1 S, 2 S, 3 S, 4 G, 5 D

## HAT2141H
designator Q?
Silicon N-Channel Power MOSFET, Power Switching; Published: 30-Oct-2009; DatasheetVersion: Rev.7.00, Sep-2005; PackageVersion: Sep-2005; PackageReference: PTZZ0005DA-A; Publisher: Altium Limited; PackageDescription: 5-Pin Plastic Transistor Outline Package 4 x 4.9 mm Body (LFPAK); Supplier 1: Digi-Key; Supplier Part Number 1: HAT2141H-ND; Code_JEITA: SC-100; ComponentLink1Description: Manufacturer Link; ComponentLink1URL: http://sg.renesas.com/fmwk.jsp?cnt=discrete_category_landing.jsp&fp=/products/discrete/; ComponentLink2Description: Datasheet; ComponentLink2URL: http://documentation.renesas.com/eng/products/transistor/rej03g1193_hat2141hds.pdf; ComponentLink3Description: Packaging Specification; ComponentLink3URL: http://sg.renesas.com/media/products/common_info/package/pdf/transistor/code/ptzz0005da_a.pdf
footprint PTZZ0005DA-A_N (TO, 5-Leads, Body 4x4.9mm, Pitch 1.27mm, Lead Span 6mm, IPC Medium Density)
footprint PTZZ0005DA-A_L (TO, 5-Leads, Body 4x4.9mm, Pitch 1.27mm, Lead Span 6mm, IPC High Density)
footprint PTZZ0005DA-A_M (TO, 5-Leads, Body 4x4.9mm, Pitch 1.27mm, Lead Span 6mm, IPC Low Density)
pins: 1 S, 2 S, 3 S, 4 G, 5 D

## HAT2142H
designator Q?
Silicon N-Channel Power MOSFET, Power Switching; Published: 30-Oct-2009; DatasheetVersion: Rev.7.00, Sep-2005; PackageVersion: Sep-2005; PackageReference: PTZZ0005DA-A; Publisher: Altium Limited; PackageDescription: 5-Pin Plastic Transistor Outline Package 4 x 4.9 mm Body (LFPAK); Code_JEITA: SC-100; ComponentLink1Description: Manufacturer Link; ComponentLink1URL: http://sg.renesas.com/fmwk.jsp?cnt=discrete_category_landing.jsp&fp=/products/discrete/; ComponentLink2Description: Datasheet; ComponentLink2URL: http://documentation.renesas.com/eng/products/transistor/rej03g1194_hat2142hds.pdf; ComponentLink3Description: Packaging Specification; ComponentLink3URL: http://sg.renesas.com/media/products/common_info/package/pdf/transistor/code/ptzz0005da_a.pdf
footprint PTZZ0005DA-A_N (TO, 5-Leads, Body 4x4.9mm, Pitch 1.27mm, Lead Span 6mm, IPC Medium Density)
footprint PTZZ0005DA-A_L (TO, 5-Leads, Body 4x4.9mm, Pitch 1.27mm, Lead Span 6mm, IPC High Density)
footprint PTZZ0005DA-A_M (TO, 5-Leads, Body 4x4.9mm, Pitch 1.27mm, Lead Span 6mm, IPC Low Density)
pins: 1 S, 2 S, 3 S, 4 G, 5 D

## HAT2143H
designator Q?
Silicon N-Channel / P-Channel Power MOSFET, High Speed Power Switching; Published: 30-Oct-2009; DatasheetVersion: Rev.3.00, Sep-2005; PackageVersion: Sep-2005; PackageReference: PTZZ0005DA-A; Publisher: Altium Limited; PackageDescription: 5-Pin Plastic Transistor Outline Package 4 x 4.9 mm Body (LFPAK); Code_JEITA: SC-100; ComponentLink1Description: Manufacturer Link; ComponentLink1URL: http://sg.renesas.com/fmwk.jsp?cnt=discrete_category_landing.jsp&fp=/products/discrete/; ComponentLink2Description: Datasheet; ComponentLink2URL: http://documentation.renesas.com/eng/products/transistor/rej03g1195_hat2143hds.pdf; ComponentLink3Description: Packaging Specification; ComponentLink3URL: http://sg.renesas.com/media/products/common_info/package/pdf/transistor/code/ptzz0005da_a.pdf
footprint PTZZ0005DA-A_N (TO, 5-Leads, Body 4x4.9mm, Pitch 1.27mm, Lead Span 6mm, IPC Medium Density)
footprint PTZZ0005DA-A_L (TO, 5-Leads, Body 4x4.9mm, Pitch 1.27mm, Lead Span 6mm, IPC High Density)
footprint PTZZ0005DA-A_M (TO, 5-Leads, Body 4x4.9mm, Pitch 1.27mm, Lead Span 6mm, IPC Low Density)
pins: 1 S, 2 S, 3 S, 4 G, 5 D

## HAT2160H
designator Q?
Silicon N-Channel Power MOSFET, Power Switching; Published: 30-Oct-2009; DatasheetVersion: Rev.3.00, Sep-2005; PackageVersion: Sep-2005; PackageReference: PTZZ0005DA-A; Publisher: Altium Limited; PackageDescription: 5-Pin Plastic Transistor Outline Package 4 x 4.9 mm Body (LFPAK); Supplier 1: Digi-Key; Supplier Part Number 1: HAT2160H-ND; Code_JEITA: SC-100; ComponentLink1Description: Manufacturer Link; ComponentLink1URL: http://sg.renesas.com/fmwk.jsp?cnt=discrete_category_landing.jsp&fp=/products/discrete/; ComponentLink2Description: Datasheet; ComponentLink2URL: http://documentation.renesas.com/eng/products/transistor/rej03g0002_hat2160h.pdf; ComponentLink3Description: Packaging Specification; ComponentLink3URL: http://sg.renesas.com/media/products/common_info/package/pdf/transistor/code/ptzz0005da_a.pdf
footprint PTZZ0005DA-A_N (TO, 5-Leads, Body 4x4.9mm, Pitch 1.27mm, Lead Span 6mm, IPC Medium Density)
footprint PTZZ0005DA-A_L (TO, 5-Leads, Body 4x4.9mm, Pitch 1.27mm, Lead Span 6mm, IPC High Density)
footprint PTZZ0005DA-A_M (TO, 5-Leads, Body 4x4.9mm, Pitch 1.27mm, Lead Span 6mm, IPC Low Density)
pins: 1 S, 2 S, 3 S, 4 G, 5 D

## HAT2164H
designator Q?
Silicon N-Channel Power MOSFET, Power Switching; Published: 30-Oct-2009; DatasheetVersion: Rev.5.00, Sep-2005; PackageVersion: Sep-2005; PackageReference: PTZZ0005DA-A; Publisher: Altium Limited; PackageDescription: 5-Pin Plastic Transistor Outline Package 4 x 4.9 mm Body (LFPAK); Supplier 1: Digi-Key; Supplier Part Number 1: HAT2164H-ND; Code_JEITA: SC-100; ComponentLink1Description: Manufacturer Link; ComponentLink1URL: http://sg.renesas.com/fmwk.jsp?cnt=discrete_category_landing.jsp&fp=/products/discrete/; ComponentLink2Description: Datasheet; ComponentLink2URL: http://documentation.renesas.com/eng/products/transistor/rej03g0003_hat2164h.pdf; ComponentLink3Description: Packaging Specification; ComponentLink3URL: http://sg.renesas.com/media/products/common_info/package/pdf/transistor/code/ptzz0005da_a.pdf
footprint PTZZ0005DA-A_N (TO, 5-Leads, Body 4x4.9mm, Pitch 1.27mm, Lead Span 6mm, IPC Medium Density)
footprint PTZZ0005DA-A_L (TO, 5-Leads, Body 4x4.9mm, Pitch 1.27mm, Lead Span 6mm, IPC High Density)
footprint PTZZ0005DA-A_M (TO, 5-Leads, Body 4x4.9mm, Pitch 1.27mm, Lead Span 6mm, IPC Low Density)
pins: 1 S, 2 S, 3 S, 4 G, 5 D

## HAT2165H
designator Q?
Silicon N-Channel Power MOSFET, Power Switching; Published: 30-Oct-2009; DatasheetVersion: Rev.6.00, Sep-2005; PackageVersion: Sep-2005; PackageReference: PTZZ0005DA-A; Publisher: Altium Limited; PackageDescription: 5-Pin Plastic Transistor Outline Package 4 x 4.9 mm Body (LFPAK); Supplier 1: Digi-Key; Supplier Part Number 1: HAT2165H-ND; Code_JEITA: SC-100; ComponentLink1Description: Manufacturer Link; ComponentLink1URL: http://sg.renesas.com/fmwk.jsp?cnt=discrete_category_landing.jsp&fp=/products/discrete/; ComponentLink2Description: Datasheet; ComponentLink2URL: http://documentation.renesas.com/eng/products/transistor/rej03g0004_hat2165h.pdf; ComponentLink3Description: Packaging Specification; ComponentLink3URL: http://sg.renesas.com/media/products/common_info/package/pdf/transistor/code/ptzz0005da_a.pdf
footprint PTZZ0005DA-A_N (TO, 5-Leads, Body 4x4.9mm, Pitch 1.27mm, Lead Span 6mm, IPC Medium Density)
footprint PTZZ0005DA-A_L (TO, 5-Leads, Body 4x4.9mm, Pitch 1.27mm, Lead Span 6mm, IPC High Density)
footprint PTZZ0005DA-A_M (TO, 5-Leads, Body 4x4.9mm, Pitch 1.27mm, Lead Span 6mm, IPC Low Density)
pins: 1 S, 2 S, 3 S, 4 G, 5 D

## HAT2165N
designator Q?
Silicon N-Channel Power MOSFET, Power Switching; Published: 30-Oct-2009; DatasheetVersion: Rev.3.00, May-2008; PackageVersion: Jul-2006; PackageReference: PTSP0008DC-A; Publisher: Altium Limited; PackageDescription: 8-Pin Plastic Small Outline Integrated Circuit 1.27 mm Pitch (LFPAK-i); Supplier 1: Digi-Key; Supplier Part Number 1: HAT2165N-ND; ComponentLink1Description: Manufacturer Link; ComponentLink1URL: http://sg.renesas.com/fmwk.jsp?cnt=discrete_category_landing.jsp&fp=/products/discrete/; ComponentLink2Description: Datasheet; ComponentLink2URL: http://documentation.renesas.com/eng/products/transistor/rej03g1680_hat2165nds.pdf; ComponentLink3Description: Packaging Specification; ComponentLink3URL: http://sg.renesas.com/media/products/common_info/package/pdf/transistor/code/ptsp0008dc_a.pdf
footprint PTSP0008DC-A_N (SOIC, 8-Leads, Body 4.9x3.95mm, Pitch 1.27mm, IPC Medium Density)
footprint PTSP0008DC-A_L (SOIC, 8-Leads, Body 4.9x3.95mm, Pitch 1.27mm, IPC High Density)
footprint PTSP0008DC-A_M (SOIC, 8-Leads, Body 4.9x3.95mm, Pitch 1.27mm, IPC Low Density)
pins: 1 S, 2 S, 3 S, 4 G, 5 D, 6 D, 7 D, 8 D

## HAT2166H
designator Q?
Silicon N-Channel Power MOSFET, Power Switching; Published: 30-Oct-2009; DatasheetVersion: Rev.6.00, Sep-2005; PackageVersion: Sep-2005; PackageReference: PTZZ0005DA-A; Publisher: Altium Limited; PackageDescription: 5-Pin Plastic Transistor Outline Package 4 x 4.9 mm Body (LFPAK); Supplier 1: Digi-Key; Supplier Part Number 1: HAT2166H-ND; Code_JEITA: SC-100; ComponentLink1Description: Manufacturer Link; ComponentLink1URL: http://sg.renesas.com/fmwk.jsp?cnt=discrete_category_landing.jsp&fp=/products/discrete/; ComponentLink2Description: Datasheet; ComponentLink2URL: http://documentation.renesas.com/eng/products/transistor/rej03g0005_hat2166h.pdf; ComponentLink3Description: Packaging Specification; ComponentLink3URL: http://sg.renesas.com/media/products/common_info/package/pdf/transistor/code/ptzz0005da_a.pdf
footprint PTZZ0005DA-A_N (TO, 5-Leads, Body 4x4.9mm, Pitch 1.27mm, Lead Span 6mm, IPC Medium Density)
footprint PTZZ0005DA-A_L (TO, 5-Leads, Body 4x4.9mm, Pitch 1.27mm, Lead Span 6mm, IPC High Density)
footprint PTZZ0005DA-A_M (TO, 5-Leads, Body 4x4.9mm, Pitch 1.27mm, Lead Span 6mm, IPC Low Density)
pins: 1 S, 2 S, 3 S, 4 G, 5 D

## HAT2167H
designator Q?
Silicon N-Channel Power MOSFET, Power Switching; Published: 30-Oct-2009; DatasheetVersion: Rev.5.00, Sep-2005; PackageVersion: Sep-2005; PackageReference: PTZZ0005DA-A; Publisher: Altium Limited; PackageDescription: 5-Pin Plastic Transistor Outline Package 4 x 4.9 mm Body (LFPAK); Supplier 1: Digi-Key; Supplier Part Number 1: HAT2167H-ND; Code_JEITA: SC-100; ComponentLink1Description: Manufacturer Link; ComponentLink1URL: http://sg.renesas.com/fmwk.jsp?cnt=discrete_category_landing.jsp&fp=/products/discrete/; ComponentLink2Description: Datasheet; ComponentLink2URL: http://documentation.renesas.com/eng/products/transistor/rej03g0039_hat2167h.pdf; ComponentLink3Description: Packaging Specification; ComponentLink3URL: http://sg.renesas.com/media/products/common_info/package/pdf/transistor/code/ptzz0005da_a.pdf
footprint PTZZ0005DA-A_N (TO, 5-Leads, Body 4x4.9mm, Pitch 1.27mm, Lead Span 6mm, IPC Medium Density)
footprint PTZZ0005DA-A_L (TO, 5-Leads, Body 4x4.9mm, Pitch 1.27mm, Lead Span 6mm, IPC High Density)
footprint PTZZ0005DA-A_M (TO, 5-Leads, Body 4x4.9mm, Pitch 1.27mm, Lead Span 6mm, IPC Low Density)
pins: 1 S, 2 S, 3 S, 4 G, 5 D

## HAT2167N
designator Q?
Silicon N-Channel Power MOSFET, Power Switching; Published: 30-Oct-2009; DatasheetVersion: Rev.2.00, May-2008; PackageVersion: Jul-2006; PackageReference: PTSP0008DC-A; Publisher: Altium Limited; PackageDescription: 8-Pin Plastic Small Outline Integrated Circuit 1.27 mm Pitch (LFPAK-i); ComponentLink1Description: Manufacturer Link; ComponentLink1URL: http://sg.renesas.com/fmwk.jsp?cnt=discrete_category_landing.jsp&fp=/products/discrete/; ComponentLink2Description: Datasheet; ComponentLink2URL: http://documentation.renesas.com/eng/products/transistor/rej03g1681_hat2167nds.pdf; ComponentLink3Description: Packaging Specification; ComponentLink3URL: http://sg.renesas.com/media/products/common_info/package/pdf/transistor/code/ptsp0008dc_a.pdf
footprint PTSP0008DC-A_N (SOIC, 8-Leads, Body 4.9x3.95mm, Pitch 1.27mm, IPC Medium Density)
footprint PTSP0008DC-A_L (SOIC, 8-Leads, Body 4.9x3.95mm, Pitch 1.27mm, IPC High Density)
footprint PTSP0008DC-A_M (SOIC, 8-Leads, Body 4.9x3.95mm, Pitch 1.27mm, IPC Low Density)
pins: 1 S, 2 S, 3 S, 4 G, 5 D, 6 D, 7 D, 8 D

## HAT2168H
designator Q?
Silicon N-Channel Power MOSFET, Power Switching; Published: 30-Oct-2009; DatasheetVersion: Rev.7.00, Sep-2005; PackageVersion: Sep-2005; PackageReference: PTZZ0005DA-A; Publisher: Altium Limited; PackageDescription: 5-Pin Plastic Transistor Outline Package 4 x 4.9 mm Body (LFPAK); Supplier 1: Digi-Key; Supplier Part Number 1: HAT2168H-ND; Code_JEITA: SC-100; ComponentLink1Description: Manufacturer Link; ComponentLink1URL: http://sg.renesas.com/fmwk.jsp?cnt=discrete_category_landing.jsp&fp=/products/discrete/; ComponentLink2Description: Datasheet; ComponentLink2URL: http://documentation.renesas.com/eng/products/transistor/rej03g0046_hat2168h.pdf; ComponentLink3Description: Packaging Specification; ComponentLink3URL: http://sg.renesas.com/media/products/common_info/package/pdf/transistor/code/ptzz0005da_a.pdf
footprint PTZZ0005DA-A_N (TO, 5-Leads, Body 4x4.9mm, Pitch 1.27mm, Lead Span 6mm, IPC Medium Density)
footprint PTZZ0005DA-A_L (TO, 5-Leads, Body 4x4.9mm, Pitch 1.27mm, Lead Span 6mm, IPC High Density)
footprint PTZZ0005DA-A_M (TO, 5-Leads, Body 4x4.9mm, Pitch 1.27mm, Lead Span 6mm, IPC Low Density)
pins: 1 S, 2 S, 3 S, 4 G, 5 D

## HAT2168N
designator Q?
Silicon N-Channel Power MOSFET, Power Switching; Published: 30-Oct-2009; DatasheetVersion: Rev.2.00, May-2008; PackageVersion: Jul-2006; PackageReference: PTSP0008DC-A; Publisher: Altium Limited; PackageDescription: 8-Pin Plastic Small Outline Integrated Circuit 1.27 mm Pitch (LFPAK-i); ComponentLink1Description: Manufacturer Link; ComponentLink1URL: http://sg.renesas.com/fmwk.jsp?cnt=discrete_category_landing.jsp&fp=/products/discrete/; ComponentLink2Description: Datasheet; ComponentLink2URL: http://documentation.renesas.com/eng/products/transistor/rej03g1682_hat2168nds.pdf; ComponentLink3Description: Packaging Specification; ComponentLink3URL: http://sg.renesas.com/media/products/common_info/package/pdf/transistor/code/ptsp0008dc_a.pdf
footprint PTSP0008DC-A_N (SOIC, 8-Leads, Body 4.9x3.95mm, Pitch 1.27mm, IPC Medium Density)
footprint PTSP0008DC-A_L (SOIC, 8-Leads, Body 4.9x3.95mm, Pitch 1.27mm, IPC High Density)
footprint PTSP0008DC-A_M (SOIC, 8-Leads, Body 4.9x3.95mm, Pitch 1.27mm, IPC Low Density)
pins: 1 S, 2 S, 3 S, 4 G, 5 D, 6 D, 7 D, 8 D

## HAT2169H
designator Q?
Silicon N-Channel Power MOSFET, Power Switching; Published: 30-Oct-2009; DatasheetVersion: Rev.4.00, Sep-2005; PackageVersion: Sep-2005; PackageReference: PTZZ0005DA-A; Publisher: Altium Limited; PackageDescription: 5-Pin Plastic Transistor Outline Package 4 x 4.9 mm Body (LFPAK); Supplier 1: Digi-Key; Supplier Part Number 1: HAT2169H-ND; Code_JEITA: SC-100; ComponentLink1Description: Manufacturer Link; ComponentLink1URL: http://sg.renesas.com/fmwk.jsp?cnt=discrete_category_landing.jsp&fp=/products/discrete/; ComponentLink2Description: Datasheet; ComponentLink2URL: http://documentation.renesas.com/eng/products/transistor/rej03g0119_hat2169h.pdf; ComponentLink3Description: Packaging Specification; ComponentLink3URL: http://sg.renesas.com/media/products/common_info/package/pdf/transistor/code/ptzz0005da_a.pdf
footprint PTZZ0005DA-A_N (TO, 5-Leads, Body 4x4.9mm, Pitch 1.27mm, Lead Span 6mm, IPC Medium Density)
footprint PTZZ0005DA-A_L (TO, 5-Leads, Body 4x4.9mm, Pitch 1.27mm, Lead Span 6mm, IPC High Density)
footprint PTZZ0005DA-A_M (TO, 5-Leads, Body 4x4.9mm, Pitch 1.27mm, Lead Span 6mm, IPC Low Density)
pins: 1 S, 2 S, 3 S, 4 G, 5 D

## HAT2170H
designator Q?
Silicon N-Channel MOSFET, Power Switching; Published: 30-Oct-2009; DatasheetVersion: Rev.5.00, Sep-2005; PackageVersion: Sep-2005; PackageReference: PTZZ0005DA-A; Publisher: Altium Limited; PackageDescription: 5-Pin Plastic Transistor Outline Package 4 x 4.9 mm Body (LFPAK); Supplier 1: Digi-Key; Supplier Part Number 1: HAT2170H-ND; Code_JEITA: SC-100; ComponentLink1Description: Manufacturer Link; ComponentLink1URL: http://sg.renesas.com/fmwk.jsp?cnt=discrete_category_landing.jsp&fp=/products/discrete/; ComponentLink2Description: Datasheet; ComponentLink2URL: http://documentation.renesas.com/eng/products/transistor/rej03g0121_hat2170h.pdf; ComponentLink3Description: Packaging Specification; ComponentLink3URL: http://sg.renesas.com/media/products/common_info/package/pdf/transistor/code/ptzz0005da_a.pdf
footprint PTZZ0005DA-A_N (TO, 5-Leads, Body 4x4.9mm, Pitch 1.27mm, Lead Span 6mm, IPC Medium Density)
footprint PTZZ0005DA-A_L (TO, 5-Leads, Body 4x4.9mm, Pitch 1.27mm, Lead Span 6mm, IPC High Density)
footprint PTZZ0005DA-A_M (TO, 5-Leads, Body 4x4.9mm, Pitch 1.27mm, Lead Span 6mm, IPC Low Density)
pins: 1 S, 2 S, 3 S, 4 G, 5 D

## HAT2171H
designator Q?
Silicon N-Channel Power MOSFET, Power Switching; Published: 30-Oct-2009; DatasheetVersion: Rev.4.00, Sep-2005; PackageVersion: Sep-2005; PackageReference: PTZZ0005DA-A; Publisher: Altium Limited; PackageDescription: 5-Pin Plastic Transistor Outline Package 4 x 4.9 mm Body (LFPAK); Supplier 1: Digi-Key; Supplier Part Number 1: HAT2171H-ND; Code_JEITA: SC-100; ComponentLink1Description: Manufacturer Link; ComponentLink1URL: http://sg.renesas.com/fmwk.jsp?cnt=discrete_category_landing.jsp&fp=/products/discrete/; ComponentLink2Description: Datasheet; ComponentLink2URL: http://documentation.renesas.com/eng/products/transistor/rej03g0131_hat2171h.pdf; ComponentLink3Description: Packaging Specification; ComponentLink3URL: http://sg.renesas.com/media/products/common_info/package/pdf/transistor/code/ptzz0005da_a.pdf
footprint PTZZ0005DA-A_N (TO, 5-Leads, Body 4x4.9mm, Pitch 1.27mm, Lead Span 6mm, IPC Medium Density)
footprint PTZZ0005DA-A_L (TO, 5-Leads, Body 4x4.9mm, Pitch 1.27mm, Lead Span 6mm, IPC High Density)
footprint PTZZ0005DA-A_M (TO, 5-Leads, Body 4x4.9mm, Pitch 1.27mm, Lead Span 6mm, IPC Low Density)
pins: 1 S, 2 S, 3 S, 4 G, 5 D

## HAT2172H
designator Q?
Silicon N-Channel Power MOSFET, Power Switching; Published: 30-Oct-2009; DatasheetVersion: Rev.5.00, Sep-2005; PackageVersion: Sep-2005; PackageReference: PTZZ0005DA-A; Publisher: Altium Limited; PackageDescription: 5-Pin Plastic Transistor Outline Package 4 x 4.9 mm Body (LFPAK); Supplier 1: Digi-Key; Supplier Part Number 1: HAT2172H-ND; Code_JEITA: SC-100; ComponentLink1Description: Manufacturer Link; ComponentLink1URL: http://sg.renesas.com/fmwk.jsp?cnt=discrete_category_landing.jsp&fp=/products/discrete/; ComponentLink2Description: Datasheet; ComponentLink2URL: http://documentation.renesas.com/eng/products/transistor/rej03g0132_hat2172h.pdf; ComponentLink3Description: Packaging Specification; ComponentLink3URL: http://sg.renesas.com/media/products/common_info/package/pdf/transistor/code/ptzz0005da_a.pdf
footprint PTZZ0005DA-A_N (TO, 5-Leads, Body 4x4.9mm, Pitch 1.27mm, Lead Span 6mm, IPC Medium Density)
footprint PTZZ0005DA-A_L (TO, 5-Leads, Body 4x4.9mm, Pitch 1.27mm, Lead Span 6mm, IPC High Density)
footprint PTZZ0005DA-A_M (TO, 5-Leads, Body 4x4.9mm, Pitch 1.27mm, Lead Span 6mm, IPC Low Density)
pins: 1 S, 2 S, 3 S, 4 G, 5 D